# Altium integrated library National Semiconductor MiscPower.IntLib: 1552 symbols (part 28 of 43)
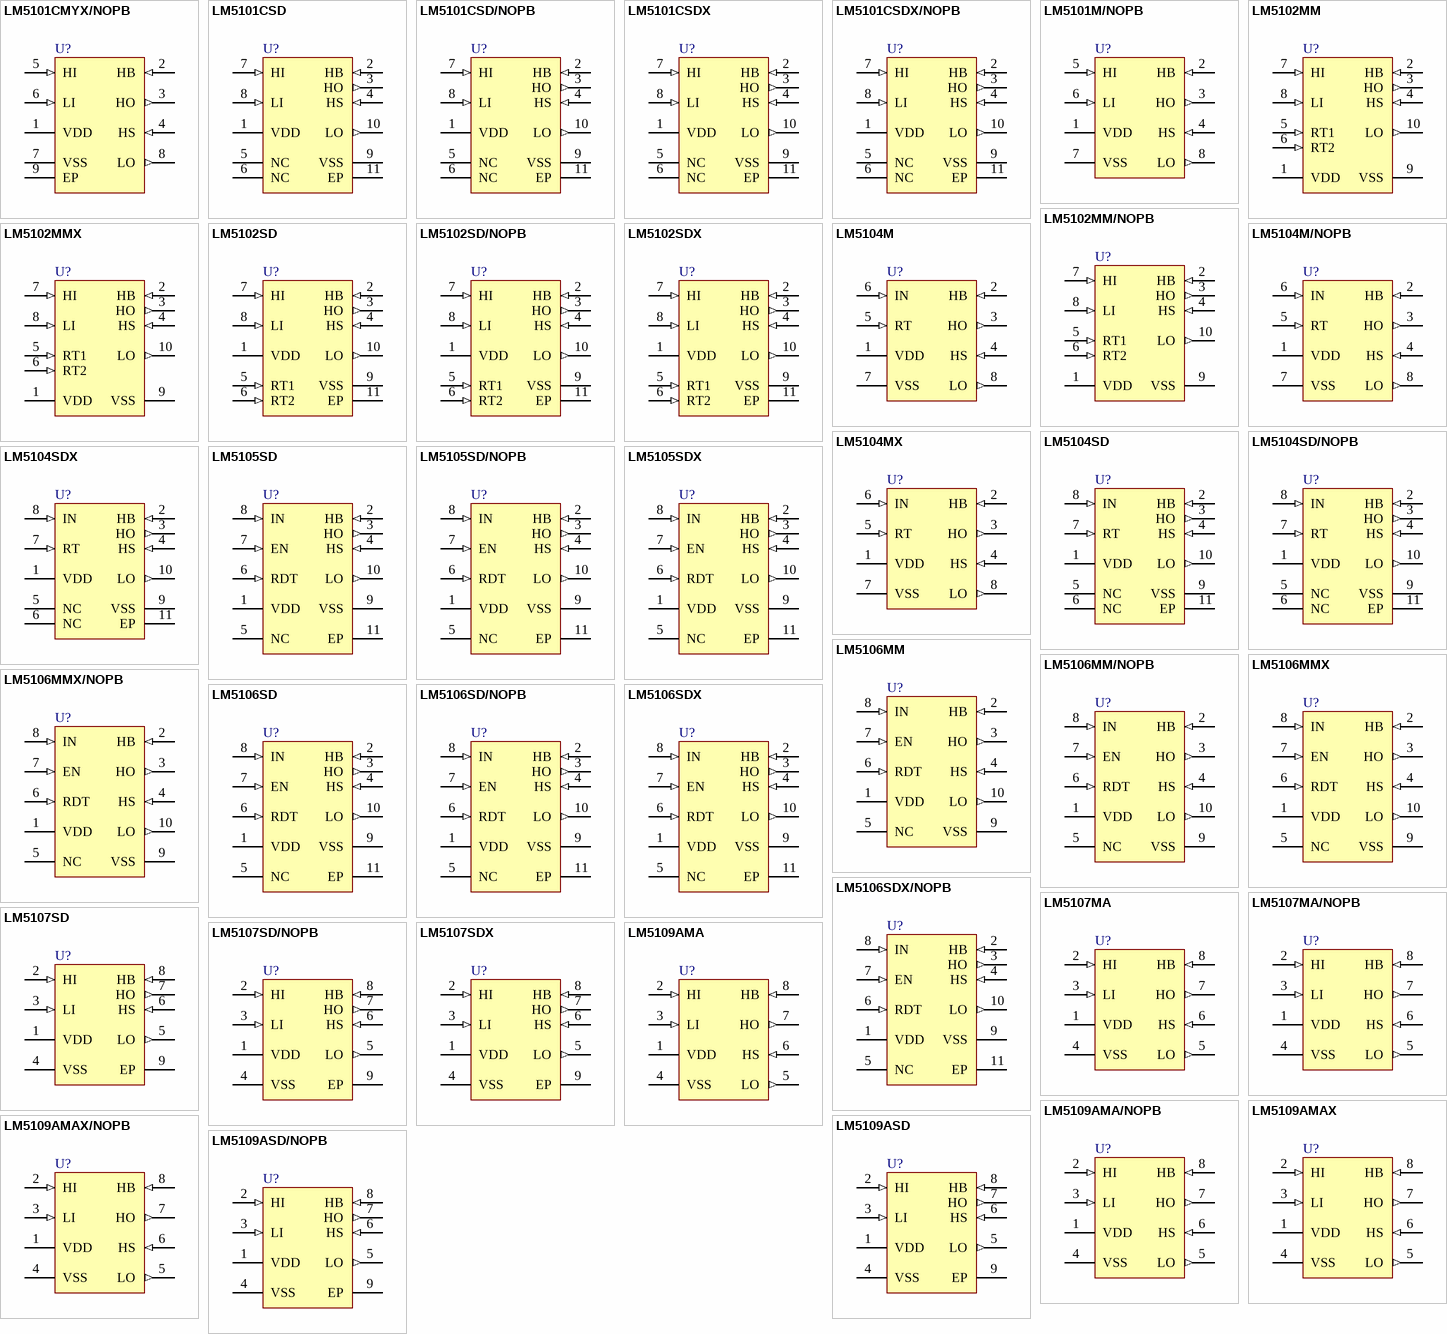
[diagram p84: symbols LM5101CMYX/NOPB to LM5109ASD/NOPB]

## LM5104SDX
designator U?
High Voltage Half-Bridge Gate Driver with Adaptive Delay, 10-pin LLP; PartNumber: LM5104SDX; Manufacturer: National Semiconductor; PackageTopMarking: NS*UZXYTT*5104SD; PowerWise: N; CompType: MiscPower; High-Reliability: Y; DatasheetVersion: Dec-2008; PackageVersion: revA, May-2003; PackageReference: SDC10A; PackageDescription: LLP, Plastic, Dual, 4 x 4 x 0.8mm Body, 10 Lead, 0.8mm Pitch, No Pullback; RoHS: N; PinCount: 10; ComponentLink1Description: Manufacturer URL; ComponentLink1URL: http://www.national.com/; ComponentLink2Description: LM5104 Datasheet; ComponentLink2URL: http://www.national.com/ds/LM/LM5104.pdf; ComponentLink3Description: LM5104 Web Page; ComponentLink3URL: http://www.national.com/pf/LM/LM5104.html; ComponentLink4Description: SDC10A Package Page; ComponentLink4URL: http://www.national.com/packaging/folders/sdc10a.html
footprint SDC10A (SON, 10-Leads, Body 4x4 mm, Pitch 0.8mm, NSC Recommended)
pins: 1 VDD (power), 2 HB (in), 3 HO (out), 4 HS (in), 5 NC, 6 NC, 7 RT (in), 8 IN (in), 9 VSS (power), 10 LO (out), 11 EP (power)

## LM5105SD
designator U?
100V Half Bridge Gate Driver with Programmable Dead-Time, 10-pin LLP; PartNumber: LM5105SD; Manufacturer: National Semiconductor; PackageTopMarking: NS*UZXYTT*L5105SD; PowerWise: N; CompType: MiscPower; High-Reliability: Y; DatasheetVersion: Feb-2006; PackageVersion: revA, May-2003; PackageReference: SDC10A; PackageDescription: LLP, Plastic, Dual, 4 x 4 x 0.8mm Body, 10 Lead, 0.8mm Pitch, No Pullback; RoHS: N; PinCount: 10; ComponentLink1Description: Manufacturer URL; ComponentLink1URL: http://www.national.com/; ComponentLink2Description: LM5105 Datasheet; ComponentLink2URL: http://www.national.com/ds/LM/LM5105.pdf; ComponentLink3Description: LM5105 Web Page; ComponentLink3URL: http://www.national.com/pf/LM/LM5105.html; ComponentLink4Description: SDC10A Package Page; ComponentLink4URL: http://www.national.com/packaging/folders/sdc10a.html
footprint SDC10A (SON, 10-Leads, Body 4x4 mm, Pitch 0.8mm, NSC Recommended)
pins: 1 VDD (power), 2 HB (in), 3 HO (out), 4 HS (in), 5 NC, 6 RDT (in), 7 EN (in), 8 IN (in), 9 VSS (power), 10 LO (out), 11 EP (power)

## LM5105SD/NOPB
designator U?
100V Half Bridge Gate Driver with Programmable Dead-Time, 10-pin LLP, Pb-Free; PartNumber: LM5105SD/NOPB; Manufacturer: National Semiconductor; PackageTopMarking: NS*UZXYTT*L5105SD; PowerWise: N; CompType: MiscPower; High-Reliability: Y; DatasheetVersion: Feb-2006; PackageVersion: revA, May-2003; PackageReference: SDC10A; PackageDescription: LLP, Plastic, Dual, 4 x 4 x 0.8mm Body, 10 Lead, 0.8mm Pitch, No Pullback; RoHS: Y; PinCount: 10; ComponentLink1Description: Manufacturer URL; ComponentLink1URL: http://www.national.com/; ComponentLink2Description: LM5105 Datasheet; ComponentLink2URL: http://www.national.com/ds/LM/LM5105.pdf; ComponentLink3Description: LM5105 Web Page; ComponentLink3URL: http://www.national.com/pf/LM/LM5105.html; ComponentLink4Description: SDC10A Package Page; ComponentLink4URL: http://www.national.com/packaging/folders/sdc10a.html
footprint SDC10A (SON, 10-Leads, Body 4x4 mm, Pitch 0.8mm, NSC Recommended)
pins: 1 VDD (power), 2 HB (in), 3 HO (out), 4 HS (in), 5 NC, 6 RDT (in), 7 EN (in), 8 IN (in), 9 VSS (power), 10 LO (out), 11 EP (power)

## LM5105SDX
designator U?
100V Half Bridge Gate Driver with Programmable Dead-Time, 10-pin LLP; PartNumber: LM5105SDX; Manufacturer: National Semiconductor; PackageTopMarking: NS*UZXYTT*L5105SD; PowerWise: N; CompType: MiscPower; High-Reliability: Y; DatasheetVersion: Feb-2006; PackageVersion: revA, May-2003; PackageReference: SDC10A; PackageDescription: LLP, Plastic, Dual, 4 x 4 x 0.8mm Body, 10 Lead, 0.8mm Pitch, No Pullback; RoHS: N; PinCount: 10; ComponentLink1Description: Manufacturer URL; ComponentLink1URL: http://www.national.com/; ComponentLink2Description: LM5105 Datasheet; ComponentLink2URL: http://www.national.com/ds/LM/LM5105.pdf; ComponentLink3Description: LM5105 Web Page; ComponentLink3URL: http://www.national.com/pf/LM/LM5105.html; ComponentLink4Description: SDC10A Package Page; ComponentLink4URL: http://www.national.com/packaging/folders/sdc10a.html
footprint SDC10A (SON, 10-Leads, Body 4x4 mm, Pitch 0.8mm, NSC Recommended)
pins: 1 VDD (power), 2 HB (in), 3 HO (out), 4 HS (in), 5 NC, 6 RDT (in), 7 EN (in), 8 IN (in), 9 VSS (power), 10 LO (out), 11 EP (power)

## LM5106MM
designator U?
100V Half Bridge Gate Driver with Programmable Dead-Time, 10-pin MSOP; PartNumber: LM5106MM; Manufacturer: National Semiconductor; PackageTopMarking: ZXTT*5106; PowerWise: N; CompType: MiscPower; High-Reliability: Y; DatasheetVersion: Oct-2009; PackageVersion: revB, Jul-2003; PackageReference: MUB10A; PackageDescription: Mini-SO, Molded, .118 x .118 x .034in Body, 10 Lead, .0197in Pitch; RoHS: N; PinCount: 10; Code_JEDEC: MO-187-BA; ComponentLink1Description: Manufacturer URL; ComponentLink1URL: http://www.national.com/; ComponentLink2Description: LM5106 Datasheet; ComponentLink2URL: http://www.national.com/ds/LM/LM5106.pdf; ComponentLink3Description: LM5106 Web Page; ComponentLink3URL: http://www.national.com/pf/LM/LM5106.html; ComponentLink4Description: MUB10A Package Page; ComponentLink4URL: http://www.national.com/packaging/folders/mub10a.html
footprint MUB10A_N (TSSOP, 10-Leads, Body 3x3mm, Pitch 0.5mm, IPC Medium Density)
footprint MUB10A_L (TSSOP, 10-Leads, Body 3x3mm, Pitch 0.5mm, IPC High Density)
footprint MUB10A_M (TSSOP, 10-Leads, Body 3x3mm, Pitch 0.5mm, IPC Low Density)
pins: 1 VDD (power), 2 HB (in), 3 HO (out), 4 HS (in), 5 NC, 6 RDT (in), 7 EN (in), 8 IN (in), 9 VSS (power), 10 LO (out)

## LM5106MM/NOPB
designator U?
100V Half-Bridge Gate Driver with Programmable Dead-Time, 10-pin MSOP, Pb-Free; PartNumber: LM5106MM/NOPB; Manufacturer: National Semiconductor; PackageTopMarking: ZXTT*5106; PowerWise: N; CompType: MiscPower; High-Reliability: Y; DatasheetVersion: Oct-2009; PackageVersion: revB, Jul-2003; PackageReference: MUB10A; PackageDescription: Mini-SO, Molded, .118 x .118 x .034in Body, 10 Lead, .0197in Pitch; RoHS: Y; PinCount: 10; Code_JEDEC: MO-187-BA; ComponentLink1Description: Manufacturer URL; ComponentLink1URL: http://www.national.com/; ComponentLink2Description: LM5106 Datasheet; ComponentLink2URL: http://www.national.com/ds/LM/LM5106.pdf; ComponentLink3Description: LM5106 Web Page; ComponentLink3URL: http://www.national.com/pf/LM/LM5106.html; ComponentLink4Description: MUB10A Package Page; ComponentLink4URL: http://www.national.com/packaging/folders/mub10a.html
footprint MUB10A_N (TSSOP, 10-Leads, Body 3x3mm, Pitch 0.5mm, IPC Medium Density)
footprint MUB10A_L (TSSOP, 10-Leads, Body 3x3mm, Pitch 0.5mm, IPC High Density)
footprint MUB10A_M (TSSOP, 10-Leads, Body 3x3mm, Pitch 0.5mm, IPC Low Density)
pins: 1 VDD (power), 2 HB (in), 3 HO (out), 4 HS (in), 5 NC, 6 RDT (in), 7 EN (in), 8 IN (in), 9 VSS (power), 10 LO (out)

## LM5106MMX
designator U?
100V Half Bridge Gate Driver with Programmable Dead-Time, 10-pin MSOP; PartNumber: LM5106MMX; Manufacturer: National Semiconductor; PackageTopMarking: ZXTT*5106; PowerWise: N; CompType: MiscPower; High-Reliability: Y; DatasheetVersion: Oct-2009; PackageVersion: revB, Jul-2003; PackageReference: MUB10A; PackageDescription: Mini-SO, Molded, .118 x .118 x .034in Body, 10 Lead, .0197in Pitch; RoHS: N; PinCount: 10; Code_JEDEC: MO-187-BA; ComponentLink1Description: Manufacturer URL; ComponentLink1URL: http://www.national.com/; ComponentLink2Description: LM5106 Datasheet; ComponentLink2URL: http://www.national.com/ds/LM/LM5106.pdf; ComponentLink3Description: LM5106 Web Page; ComponentLink3URL: http://www.national.com/pf/LM/LM5106.html; ComponentLink4Description: MUB10A Package Page; ComponentLink4URL: http://www.national.com/packaging/folders/mub10a.html
footprint MUB10A_N (TSSOP, 10-Leads, Body 3x3mm, Pitch 0.5mm, IPC Medium Density)
footprint MUB10A_L (TSSOP, 10-Leads, Body 3x3mm, Pitch 0.5mm, IPC High Density)
footprint MUB10A_M (TSSOP, 10-Leads, Body 3x3mm, Pitch 0.5mm, IPC Low Density)
pins: 1 VDD (power), 2 HB (in), 3 HO (out), 4 HS (in), 5 NC, 6 RDT (in), 7 EN (in), 8 IN (in), 9 VSS (power), 10 LO (out)

## LM5106MMX/NOPB
designator U?
100V Half Bridge Gate Driver with Programmable Dead-Time, 10-pin MSOP, Pb-Free; PartNumber: LM5106MMX/NOPB; Manufacturer: National Semiconductor; PackageTopMarking: ZXTT*5106; PowerWise: N; CompType: MiscPower; High-Reliability: Y; DatasheetVersion: Oct-2009; PackageVersion: revB, Jul-2003; PackageReference: MUB10A; PackageDescription: Mini-SO, Molded, .118 x .118 x .034in Body, 10 Lead, .0197in Pitch; RoHS: Y; PinCount: 10; Code_JEDEC: MO-187-BA; ComponentLink1Description: Manufacturer URL; ComponentLink1URL: http://www.national.com/; ComponentLink2Description: LM5106 Datasheet; ComponentLink2URL: http://www.national.com/ds/LM/LM5106.pdf; ComponentLink3Description: LM5106 Web Page; ComponentLink3URL: http://www.national.com/pf/LM/LM5106.html; ComponentLink4Description: MUB10A Package Page; ComponentLink4URL: http://www.national.com/packaging/folders/mub10a.html
footprint MUB10A_N (TSSOP, 10-Leads, Body 3x3mm, Pitch 0.5mm, IPC Medium Density)
footprint MUB10A_L (TSSOP, 10-Leads, Body 3x3mm, Pitch 0.5mm, IPC High Density)
footprint MUB10A_M (TSSOP, 10-Leads, Body 3x3mm, Pitch 0.5mm, IPC Low Density)
pins: 1 VDD (power), 2 HB (in), 3 HO (out), 4 HS (in), 5 NC, 6 RDT (in), 7 EN (in), 8 IN (in), 9 VSS (power), 10 LO (out)

## LM5106SD
designator U?
100V Half Bridge Gate Driver with Programmable Dead-Time, 10-pin LLP; PartNumber: LM5106SD; Manufacturer: National Semiconductor; PackageTopMarking: NS*UZXYTT*L5106SD; PowerWise: N; CompType: MiscPower; High-Reliability: Y; DatasheetVersion: Oct-2009; PackageVersion: revA, May-2003; PackageReference: SDC10A; PackageDescription: LLP, Plastic, Dual, 4 x 4 x 0.8mm Body, 10 Lead, 0.8mm Pitch, No Pullback; RoHS: N; PinCount: 10; ComponentLink1Description: Manufacturer URL; ComponentLink1URL: http://www.national.com/; ComponentLink2Description: LM5106 Datasheet; ComponentLink2URL: http://www.national.com/ds/LM/LM5106.pdf; ComponentLink3Description: LM5106 Web Page; ComponentLink3URL: http://www.national.com/pf/LM/LM5106.html; ComponentLink4Description: SDC10A Package Page; ComponentLink4URL: http://www.national.com/packaging/folders/sdc10a.html
footprint SDC10A (SON, 10-Leads, Body 4x4 mm, Pitch 0.8mm, NSC Recommended)
pins: 1 VDD (power), 2 HB (in), 3 HO (out), 4 HS (in), 5 NC, 6 RDT (in), 7 EN (in), 8 IN (in), 9 VSS (power), 10 LO (out), 11 EP (power)

## LM5106SD/NOPB
designator U?
100V Half-Bridge Gate Driver with Programmable Dead-Time, 10-pin LLP, Pb-Free; PartNumber: LM5106SD/NOPB; Manufacturer: National Semiconductor; PackageTopMarking: NS*UZXYTT*L5106SD; PowerWise: N; CompType: MiscPower; High-Reliability: Y; DatasheetVersion: Oct-2009; PackageVersion: revA, May-2003; PackageReference: SDC10A; PackageDescription: LLP, Plastic, Dual, 4 x 4 x 0.8mm Body, 10 Lead, 0.8mm Pitch, No Pullback; RoHS: Y; PinCount: 10; ComponentLink1Description: Manufacturer URL; ComponentLink1URL: http://www.national.com/; ComponentLink2Description: LM5106 Datasheet; ComponentLink2URL: http://www.national.com/ds/LM/LM5106.pdf; ComponentLink3Description: LM5106 Web Page; ComponentLink3URL: http://www.national.com/pf/LM/LM5106.html; ComponentLink4Description: SDC10A Package Page; ComponentLink4URL: http://www.national.com/packaging/folders/sdc10a.html
footprint SDC10A (SON, 10-Leads, Body 4x4 mm, Pitch 0.8mm, NSC Recommended)
pins: 1 VDD (power), 2 HB (in), 3 HO (out), 4 HS (in), 5 NC, 6 RDT (in), 7 EN (in), 8 IN (in), 9 VSS (power), 10 LO (out), 11 EP (power)

## LM5106SDX
designator U?
100V Half Bridge Gate Driver with Programmable Dead-Time, 10-pin LLP; PartNumber: LM5106SDX; Manufacturer: National Semiconductor; PackageTopMarking: NS*UZXYTT*L5106SD; PowerWise: N; CompType: MiscPower; High-Reliability: Y; DatasheetVersion: Oct-2009; PackageVersion: revA, May-2003; PackageReference: SDC10A; PackageDescription: LLP, Plastic, Dual, 4 x 4 x 0.8mm Body, 10 Lead, 0.8mm Pitch, No Pullback; RoHS: N; PinCount: 10; ComponentLink1Description: Manufacturer URL; ComponentLink1URL: http://www.national.com/; ComponentLink2Description: LM5106 Datasheet; ComponentLink2URL: http://www.national.com/ds/LM/LM5106.pdf; ComponentLink3Description: LM5106 Web Page; ComponentLink3URL: http://www.national.com/pf/LM/LM5106.html; ComponentLink4Description: SDC10A Package Page; ComponentLink4URL: http://www.national.com/packaging/folders/sdc10a.html
footprint SDC10A (SON, 10-Leads, Body 4x4 mm, Pitch 0.8mm, NSC Recommended)
pins: 1 VDD (power), 2 HB (in), 3 HO (out), 4 HS (in), 5 NC, 6 RDT (in), 7 EN (in), 8 IN (in), 9 VSS (power), 10 LO (out), 11 EP (power)

## LM5106SDX/NOPB
designator U?
100V Half Bridge Gate Driver with Programmable Dead-Time, 10-pin LLP, Pb-Free; PartNumber: LM5106SDX/NOPB; Manufacturer: National Semiconductor; PackageTopMarking: NS*UZXYTT*L5106SD; PowerWise: N; CompType: MiscPower; High-Reliability: Y; DatasheetVersion: Oct-2009; PackageVersion: revA, May-2003; PackageReference: SDC10A; PackageDescription: LLP, Plastic, Dual, 4 x 4 x 0.8mm Body, 10 Lead, 0.8mm Pitch, No Pullback; RoHS: Y; PinCount: 10; ComponentLink1Description: Manufacturer URL; ComponentLink1URL: http://www.national.com/; ComponentLink2Description: LM5106 Datasheet; ComponentLink2URL: http://www.national.com/ds/LM/LM5106.pdf; ComponentLink3Description: LM5106 Web Page; ComponentLink3URL: http://www.national.com/pf/LM/LM5106.html; ComponentLink4Description: SDC10A Package Page; ComponentLink4URL: http://www.national.com/packaging/folders/sdc10a.html
footprint SDC10A (SON, 10-Leads, Body 4x4 mm, Pitch 0.8mm, NSC Recommended)
pins: 1 VDD (power), 2 HB (in), 3 HO (out), 4 HS (in), 5 NC, 6 RDT (in), 7 EN (in), 8 IN (in), 9 VSS (power), 10 LO (out), 11 EP (power)

## LM5107MA
designator U?
100V / 1.4A Peak Half Bridge Gate Driver, 8-pin Narrow SOIC; PartNumber: LM5107MA; Manufacturer: National Semiconductor; PackageTopMarking: NSZXTT*L5107*MA; PowerWise: N; CompType: MiscPower; High-Reliability: Y; DatasheetVersion: Mar-2005; PackageVersion: revM, May-2009; PackageReference: M08A; PackageDescription: SOIC Narrow, 4.9 x 3.9 x 1.45mm, 8 Lead, 1.27mm Pitch; RoHS: N; PinCount: 8; Code_JEDEC: MS-012-AA; Code_IPC: SOIC127P600-8; ComponentLink1Description: Manufacturer URL; ComponentLink1URL: http://www.national.com/; ComponentLink2Description: LM5107 Datasheet; ComponentLink2URL: http://www.national.com/ds/LM/LM5107.pdf; ComponentLink3Description: LM5107 Web Page; ComponentLink3URL: http://www.national.com/pf/LM/LM5107.html; ComponentLink4Description: M08A Package Page; ComponentLink4URL: http://www.national.com/packaging/folders/m08a.html
footprint M08A_N (SOIC, 8-Leads, Body 4.9x3.9mm, Pitch 1.27mm, IPC Medium Density)
footprint M08A_L (SOIC, 8-Leads, Body 4.9x3.9mm, Pitch 1.27mm, IPC High Density)
footprint M08A_M (SOIC, 8-Leads, Body 4.9x3.9mm, Pitch 1.27mm, IPC Low Density)
pins: 1 VDD (power), 2 HI (in), 3 LI (in), 4 VSS (power), 5 LO (out), 6 HS (in), 7 HO (out), 8 HB (in)

## LM5107MA/NOPB
designator U?
100V / 1.4A Peak Half-Bridge Gate Driver, 8-pin Narrow SOIC, Pb-Free; PartNumber: LM5107MA/NOPB; Manufacturer: National Semiconductor; PackageTopMarking: NSZXTT*L5107*MA; PowerWise: N; CompType: MiscPower; High-Reliability: Y; DatasheetVersion: Mar-2005; PackageVersion: revM, May-2009; PackageReference: M08A; PackageDescription: SOIC Narrow, 4.9 x 3.9 x 1.45mm, 8 Lead, 1.27mm Pitch; RoHS: Y; PinCount: 8; Code_JEDEC: MS-012-AA; Code_IPC: SOIC127P600-8; ComponentLink1Description: Manufacturer URL; ComponentLink1URL: http://www.national.com/; ComponentLink2Description: LM5107 Datasheet; ComponentLink2URL: http://www.national.com/ds/LM/LM5107.pdf; ComponentLink3Description: LM5107 Web Page; ComponentLink3URL: http://www.national.com/pf/LM/LM5107.html; ComponentLink4Description: M08A Package Page; ComponentLink4URL: http://www.national.com/packaging/folders/m08a.html
footprint M08A_N (SOIC, 8-Leads, Body 4.9x3.9mm, Pitch 1.27mm, IPC Medium Density)
footprint M08A_L (SOIC, 8-Leads, Body 4.9x3.9mm, Pitch 1.27mm, IPC High Density)
footprint M08A_M (SOIC, 8-Leads, Body 4.9x3.9mm, Pitch 1.27mm, IPC Low Density)
pins: 1 VDD (power), 2 HI (in), 3 LI (in), 4 VSS (power), 5 LO (out), 6 HS (in), 7 HO (out), 8 HB (in)

## LM5107SD
designator U?
100V / 1.4A Peak Half Bridge Gate Driver, 8-pin LLP; PartNumber: LM5107SD; Manufacturer: National Semiconductor; PackageTopMarking: NS*UZXYTT*L5107SD; PowerWise: N; CompType: MiscPower; High-Reliability: Y; DatasheetVersion: Mar-2005; PackageVersion: revA, Jun-2003; PackageReference: SDC08A; PackageDescription: LLP, Plastic, Dual, 4 x 4 x 0.8mm Body, 8 Lead, 0.8mm Pitch, No Pullback; RoHS: N; PinCount: 8; ComponentLink1Description: Manufacturer URL; ComponentLink1URL: http://www.national.com/; ComponentLink2Description: LM5107 Datasheet; ComponentLink2URL: http://www.national.com/ds/LM/LM5107.pdf; ComponentLink3Description: LM5107 Web Page; ComponentLink3URL: http://www.national.com/pf/LM/LM5107.html; ComponentLink4Description: SDC08A Package Page; ComponentLink4URL: http://www.national.com/packaging/folders/sdc08a.html
footprint SDC08A (SON, 8-Leads, Body 4x4mm, Pitch 0.8mm, NSC Recommended)
pins: 1 VDD (power), 2 HI (in), 3 LI (in), 4 VSS (power), 5 LO (out), 6 HS (in), 7 HO (out), 8 HB (in), 9 EP (power)

## LM5107SD/NOPB
designator U?
100V / 1.4A Peak Half-Bridge Gate Driver, 8-pin LLP, Pb-Free; PartNumber: LM5107SD/NOPB; Manufacturer: National Semiconductor; PackageTopMarking: NS*UZXYTT*L5107SD; PowerWise: N; CompType: MiscPower; High-Reliability: Y; DatasheetVersion: Mar-2005; PackageVersion: revA, Jun-2003; PackageReference: SDC08A; PackageDescription: LLP, Plastic, Dual, 4 x 4 x 0.8mm Body, 8 Lead, 0.8mm Pitch, No Pullback; RoHS: Y; PinCount: 8; ComponentLink1Description: Manufacturer URL; ComponentLink1URL: http://www.national.com/; ComponentLink2Description: LM5107 Datasheet; ComponentLink2URL: http://www.national.com/ds/LM/LM5107.pdf; ComponentLink3Description: LM5107 Web Page; ComponentLink3URL: http://www.national.com/pf/LM/LM5107.html; ComponentLink4Description: SDC08A Package Page; ComponentLink4URL: http://www.national.com/packaging/folders/sdc08a.html
footprint SDC08A (SON, 8-Leads, Body 4x4mm, Pitch 0.8mm, NSC Recommended)
pins: 1 VDD (power), 2 HI (in), 3 LI (in), 4 VSS (power), 5 LO (out), 6 HS (in), 7 HO (out), 8 HB (in), 9 EP (power)

## LM5107SDX
designator U?
100V / 1.4A Peak Half Bridge Gate Driver, 8-pin LLP; PartNumber: LM5107SDX; Manufacturer: National Semiconductor; PackageTopMarking: NS*UZXYTT*L5107SD; PowerWise: N; CompType: MiscPower; High-Reliability: Y; DatasheetVersion: Mar-2005; PackageVersion: revA, Jun-2003; PackageReference: SDC08A; PackageDescription: LLP, Plastic, Dual, 4 x 4 x 0.8mm Body, 8 Lead, 0.8mm Pitch, No Pullback; RoHS: N; PinCount: 8; ComponentLink1Description: Manufacturer URL; ComponentLink1URL: http://www.national.com/; ComponentLink2Description: LM5107 Datasheet; ComponentLink2URL: http://www.national.com/ds/LM/LM5107.pdf; ComponentLink3Description: LM5107 Web Page; ComponentLink3URL: http://www.national.com/pf/LM/LM5107.html; ComponentLink4Description: SDC08A Package Page; ComponentLink4URL: http://www.national.com/packaging/folders/sdc08a.html
footprint SDC08A (SON, 8-Leads, Body 4x4mm, Pitch 0.8mm, NSC Recommended)
pins: 1 VDD (power), 2 HI (in), 3 LI (in), 4 VSS (power), 5 LO (out), 6 HS (in), 7 HO (out), 8 HB (in), 9 EP (power)

## LM5109AMA
designator U?
High Voltage 1A Peak Half Bridge Gate Driver, 8-pin Narrow SOIC; PartNumber: LM5109AMA; Manufacturer: National Semiconductor; PackageTopMarking: NSZXTT*L5109*AMA; PowerWise: N; CompType: MiscPower; High-Reliability: Y; DatasheetVersion: Apr-2006; PackageVersion: revM, May-2009; PackageReference: M08A; PackageDescription: SOIC Narrow, 4.9 x 3.9 x 1.45mm, 8 Lead, 1.27mm Pitch; RoHS: N; PinCount: 8; Code_JEDEC: MS-012-AA; Code_IPC: SOIC127P600-8; ComponentLink1Description: Manufacturer URL; ComponentLink1URL: http://www.national.com/; ComponentLink2Description: LM5109A Datasheet; ComponentLink2URL: http://www.national.com/ds/LM/LM5109A.pdf; ComponentLink3Description: LM5109A Web Page; ComponentLink3URL: http://www.national.com/pf/LM/LM5109A.html; ComponentLink4Description: M08A Package Page; ComponentLink4URL: http://www.national.com/packaging/folders/m08a.html
footprint M08A_N (SOIC, 8-Leads, Body 4.9x3.9mm, Pitch 1.27mm, IPC Medium Density)
footprint M08A_L (SOIC, 8-Leads, Body 4.9x3.9mm, Pitch 1.27mm, IPC High Density)
footprint M08A_M (SOIC, 8-Leads, Body 4.9x3.9mm, Pitch 1.27mm, IPC Low Density)
pins: 1 VDD (power), 2 HI (in), 3 LI (in), 4 VSS (power), 5 LO (out), 6 HS (in), 7 HO (out), 8 HB (in)

## LM5109AMA/NOPB
designator U?
High Voltage 1A Peak Half Bridge Gate Driver, 8-pin Narrow SOIC, Pb-Free; PartNumber: LM5109AMA/NOPB; Manufacturer: National Semiconductor; PackageTopMarking: NSZXTT*L5109*AMA; PowerWise: N; CompType: MiscPower; High-Reliability: Y; DatasheetVersion: Apr-2006; PackageVersion: revM, May-2009; PackageReference: M08A; PackageDescription: SOIC Narrow, 4.9 x 3.9 x 1.45mm, 8 Lead, 1.27mm Pitch; RoHS: Y; PinCount: 8; Code_JEDEC: MS-012-AA; Code_IPC: SOIC127P600-8; ComponentLink1Description: Manufacturer URL; ComponentLink1URL: http://www.national.com/; ComponentLink2Description: LM5109A Datasheet; ComponentLink2URL: http://www.national.com/ds/LM/LM5109A.pdf; ComponentLink3Description: LM5109A Web Page; ComponentLink3URL: http://www.national.com/pf/LM/LM5109A.html; ComponentLink4Description: M08A Package Page; ComponentLink4URL: http://www.national.com/packaging/folders/m08a.html
footprint M08A_N (SOIC, 8-Leads, Body 4.9x3.9mm, Pitch 1.27mm, IPC Medium Density)
footprint M08A_L (SOIC, 8-Leads, Body 4.9x3.9mm, Pitch 1.27mm, IPC High Density)
footprint M08A_M (SOIC, 8-Leads, Body 4.9x3.9mm, Pitch 1.27mm, IPC Low Density)
pins: 1 VDD (power), 2 HI (in), 3 LI (in), 4 VSS (power), 5 LO (out), 6 HS (in), 7 HO (out), 8 HB (in)

## LM5109AMAX
designator U?
High Voltage 1A Peak Half Bridge Gate Driver, 8-pin Narrow SOIC; PartNumber: LM5109AMAX; Manufacturer: National Semiconductor; PackageTopMarking: NSZXTT*L5109*AMA; PowerWise: N; CompType: MiscPower; High-Reliability: Y; DatasheetVersion: Apr-2006; PackageVersion: revM, May-2009; PackageReference: M08A; PackageDescription: SOIC Narrow, 4.9 x 3.9 x 1.45mm, 8 Lead, 1.27mm Pitch; RoHS: N; PinCount: 8; Code_JEDEC: MS-012-AA; Code_IPC: SOIC127P600-8; ComponentLink1Description: Manufacturer URL; ComponentLink1URL: http://www.national.com/; ComponentLink2Description: LM5109A Datasheet; ComponentLink2URL: http://www.national.com/ds/LM/LM5109A.pdf; ComponentLink3Description: LM5109A Web Page; ComponentLink3URL: http://www.national.com/pf/LM/LM5109A.html; ComponentLink4Description: M08A Package Page; ComponentLink4URL: http://www.national.com/packaging/folders/m08a.html
footprint M08A_N (SOIC, 8-Leads, Body 4.9x3.9mm, Pitch 1.27mm, IPC Medium Density)
footprint M08A_L (SOIC, 8-Leads, Body 4.9x3.9mm, Pitch 1.27mm, IPC High Density)
footprint M08A_M (SOIC, 8-Leads, Body 4.9x3.9mm, Pitch 1.27mm, IPC Low Density)
pins: 1 VDD (power), 2 HI (in), 3 LI (in), 4 VSS (power), 5 LO (out), 6 HS (in), 7 HO (out), 8 HB (in)

## LM5109AMAX/NOPB
designator U?
High Voltage 1A Peak Half Bridge Gate Driver, 8-pin Narrow SOIC, Pb-Free; PartNumber: LM5109AMAX/NOPB; Manufacturer: National Semiconductor; PackageTopMarking: NSZXTT*L5109*AMA; PowerWise: N; CompType: MiscPower; High-Reliability: Y; DatasheetVersion: Apr-2006; PackageVersion: revM, May-2009; PackageReference: M08A; PackageDescription: SOIC Narrow, 4.9 x 3.9 x 1.45mm, 8 Lead, 1.27mm Pitch; RoHS: Y; PinCount: 8; Code_JEDEC: MS-012-AA; Code_IPC: SOIC127P600-8; ComponentLink1Description: Manufacturer URL; ComponentLink1URL: http://www.national.com/; ComponentLink2Description: LM5109A Datasheet; ComponentLink2URL: http://www.national.com/ds/LM/LM5109A.pdf; ComponentLink3Description: LM5109A Web Page; ComponentLink3URL: http://www.national.com/pf/LM/LM5109A.html; ComponentLink4Description: M08A Package Page; ComponentLink4URL: http://www.national.com/packaging/folders/m08a.html
footprint M08A_N (SOIC, 8-Leads, Body 4.9x3.9mm, Pitch 1.27mm, IPC Medium Density)
footprint M08A_L (SOIC, 8-Leads, Body 4.9x3.9mm, Pitch 1.27mm, IPC High Density)
footprint M08A_M (SOIC, 8-Leads, Body 4.9x3.9mm, Pitch 1.27mm, IPC Low Density)
pins: 1 VDD (power), 2 HI (in), 3 LI (in), 4 VSS (power), 5 LO (out), 6 HS (in), 7 HO (out), 8 HB (in)

## LM5109ASD
designator U?
High Voltage 1A Peak Half Bridge Gate Driver, 8-pin LLP; PartNumber: LM5109ASD; Manufacturer: National Semiconductor; PackageTopMarking: NS*UZXYTT*5109ASD; PowerWise: N; CompType: MiscPower; High-Reliability: Y; DatasheetVersion: Apr-2006; PackageVersion: revA, Jun-2003; PackageReference: SDC08A; PackageDescription: LLP, Plastic, Dual, 4 x 4 x 0.8mm Body, 8 Lead, 0.8mm Pitch, No Pullback; RoHS: N; PinCount: 8; ComponentLink1Description: Manufacturer URL; ComponentLink1URL: http://www.national.com/; ComponentLink2Description: LM5109A Datasheet; ComponentLink2URL: http://www.national.com/ds/LM/LM5109A.pdf; ComponentLink3Description: LM5109A Web Page; ComponentLink3URL: http://www.national.com/pf/LM/LM5109A.html; ComponentLink4Description: SDC08A Package Page; ComponentLink4URL: http://www.national.com/packaging/folders/sdc08a.html
footprint SDC08A (SON, 8-Leads, Body 4x4mm, Pitch 0.8mm, NSC Recommended)
pins: 1 VDD (power), 2 HI (in), 3 LI (in), 4 VSS (power), 5 LO (out), 6 HS (in), 7 HO (out), 8 HB (in), 9 EP (power)

## LM5109ASD/NOPB
designator U?
High Voltage 1A Peak Half Bridge Gate Driver, 8-pin LLP, Pb-Free; PartNumber: LM5109ASD/NOPB; Manufacturer: National Semiconductor; PackageTopMarking: NS*UZXYTT*5109ASD; PowerWise: N; CompType: MiscPower; High-Reliability: Y; DatasheetVersion: Apr-2006; PackageVersion: revA, Jun-2003; PackageReference: SDC08A; PackageDescription: LLP, Plastic, Dual, 4 x 4 x 0.8mm Body, 8 Lead, 0.8mm Pitch, No Pullback; RoHS: Y; PinCount: 8; ComponentLink1Description: Manufacturer URL; ComponentLink1URL: http://www.national.com/; ComponentLink2Description: LM5109A Datasheet; ComponentLink2URL: http://www.national.com/ds/LM/LM5109A.pdf; ComponentLink3Description: LM5109A Web Page; ComponentLink3URL: http://www.national.com/pf/LM/LM5109A.html; ComponentLink4Description: SDC08A Package Page; ComponentLink4URL: http://www.national.com/packaging/folders/sdc08a.html
footprint SDC08A (SON, 8-Leads, Body 4x4mm, Pitch 0.8mm, NSC Recommended)
pins: 1 VDD (power), 2 HI (in), 3 LI (in), 4 VSS (power), 5 LO (out), 6 HS (in), 7 HO (out), 8 HB (in), 9 EP (power)

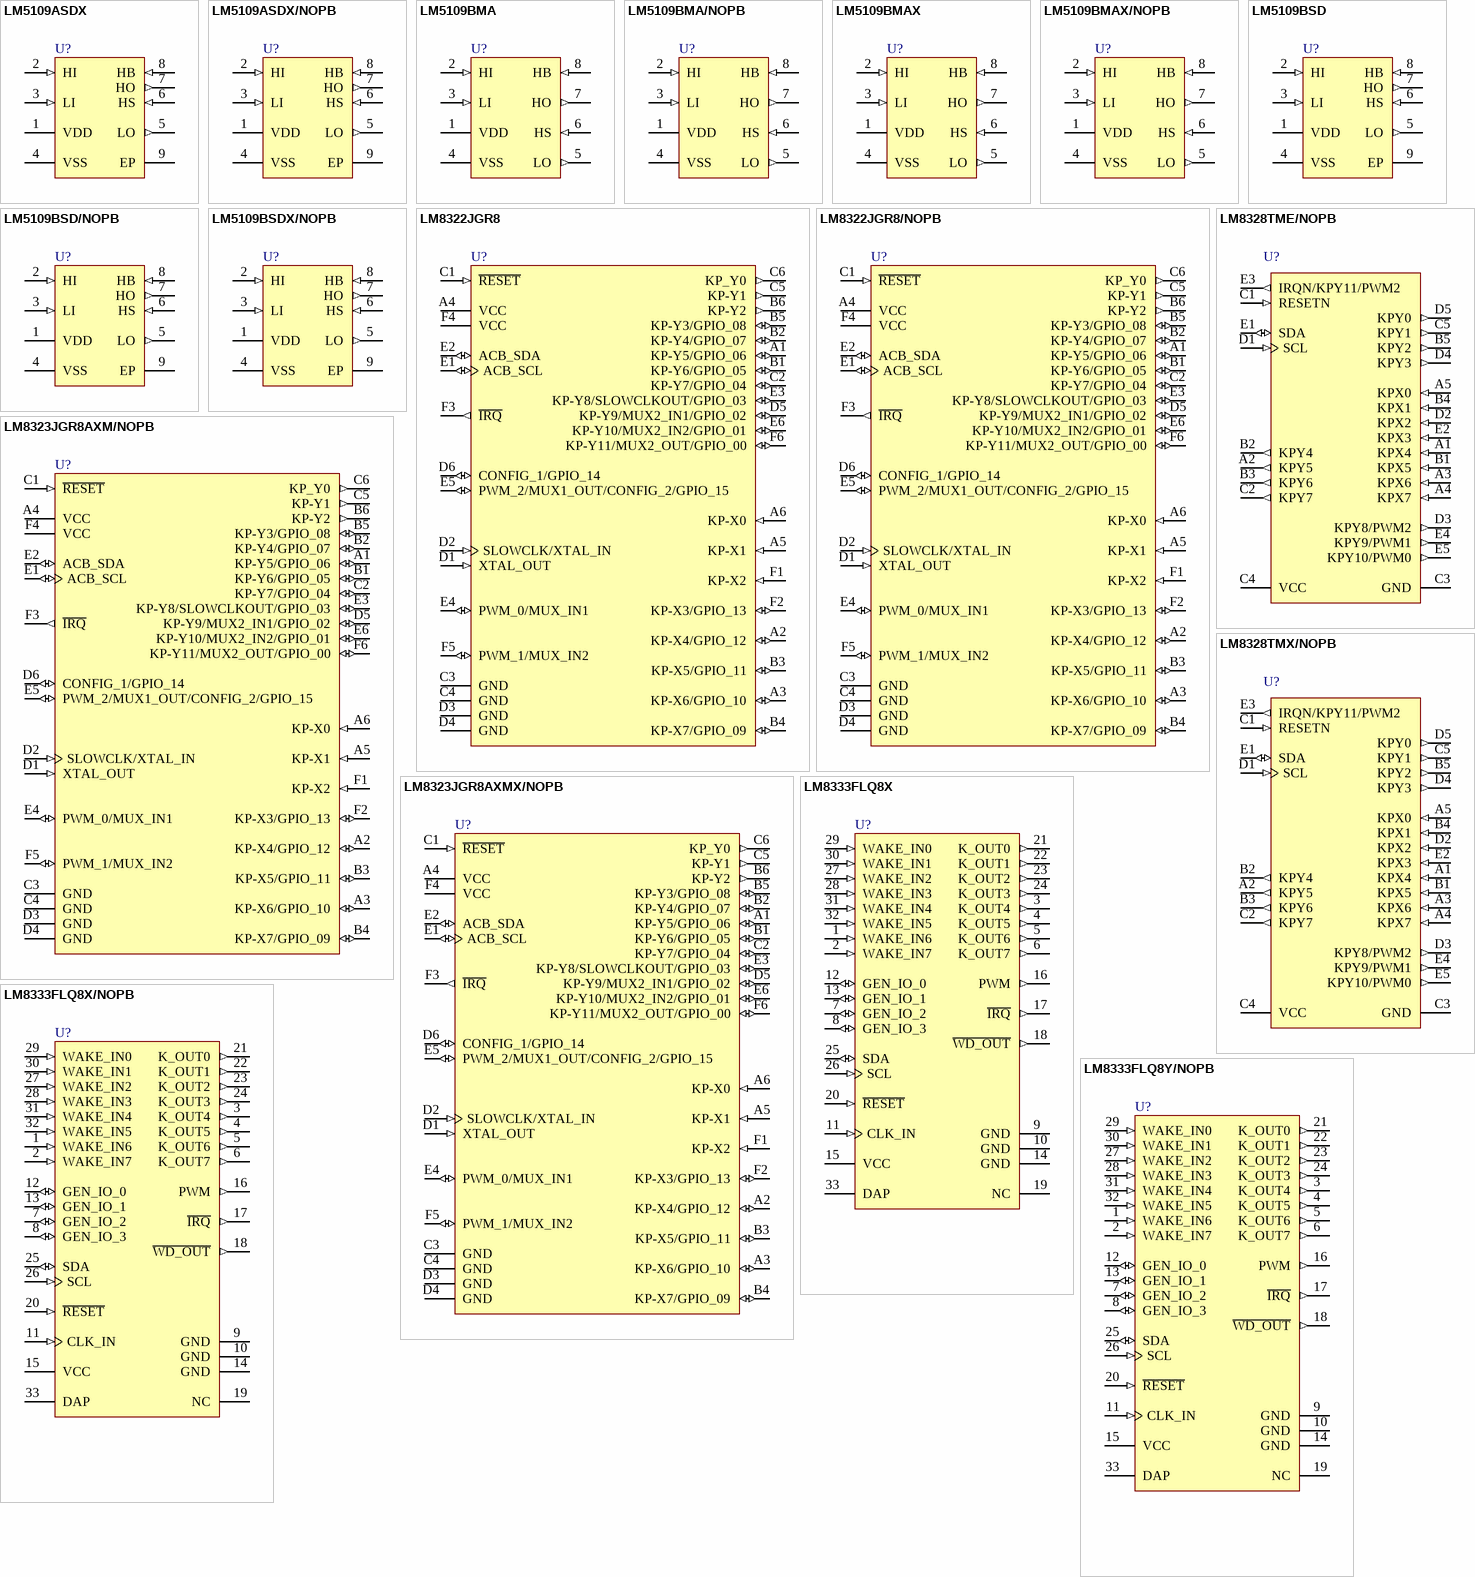
[diagram p31: symbols LM5109ASDX to LM8333FLQ8Y/NOPB]

## LM5109ASDX
designator U?
High Voltage 1A Peak Half Bridge Gate Driver, 8-pin LLP; PartNumber: LM5109ASDX; Manufacturer: National Semiconductor; PackageTopMarking: NS*UZXYTT*5109ASD; PowerWise: N; CompType: MiscPower; High-Reliability: Y; DatasheetVersion: Apr-2006; PackageVersion: revA, Jun-2003; PackageReference: SDC08A; PackageDescription: LLP, Plastic, Dual, 4 x 4 x 0.8mm Body, 8 Lead, 0.8mm Pitch, No Pullback; RoHS: N; PinCount: 8; ComponentLink1Description: Manufacturer URL; ComponentLink1URL: http://www.national.com/; ComponentLink2Description: LM5109A Datasheet; ComponentLink2URL: http://www.national.com/ds/LM/LM5109A.pdf; ComponentLink3Description: LM5109A Web Page; ComponentLink3URL: http://www.national.com/pf/LM/LM5109A.html; ComponentLink4Description: SDC08A Package Page; ComponentLink4URL: http://www.national.com/packaging/folders/sdc08a.html
footprint SDC08A (SON, 8-Leads, Body 4x4mm, Pitch 0.8mm, NSC Recommended)
pins: 1 VDD (power), 2 HI (in), 3 LI (in), 4 VSS (power), 5 LO (out), 6 HS (in), 7 HO (out), 8 HB (in), 9 EP (power)

## LM5109ASDX/NOPB
designator U?
High Voltage 1A Peak Half Bridge Gate Driver, 8-pin LLP, Pb-Free; PartNumber: LM5109ASDX/NOPB; Manufacturer: National Semiconductor; PackageTopMarking: NS*UZXYTT*5109ASD; PowerWise: N; CompType: MiscPower; High-Reliability: Y; DatasheetVersion: Apr-2006; PackageVersion: revA, Jun-2003; PackageReference: SDC08A; PackageDescription: LLP, Plastic, Dual, 4 x 4 x 0.8mm Body, 8 Lead, 0.8mm Pitch, No Pullback; RoHS: Y; PinCount: 8; ComponentLink1Description: Manufacturer URL; ComponentLink1URL: http://www.national.com/; ComponentLink2Description: LM5109A Datasheet; ComponentLink2URL: http://www.national.com/ds/LM/LM5109A.pdf; ComponentLink3Description: LM5109A Web Page; ComponentLink3URL: http://www.national.com/pf/LM/LM5109A.html; ComponentLink4Description: SDC08A Package Page; ComponentLink4URL: http://www.national.com/packaging/folders/sdc08a.html
footprint SDC08A (SON, 8-Leads, Body 4x4mm, Pitch 0.8mm, NSC Recommended)
pins: 1 VDD (power), 2 HI (in), 3 LI (in), 4 VSS (power), 5 LO (out), 6 HS (in), 7 HO (out), 8 HB (in), 9 EP (power)

## LM5109BMA
designator U?
High Voltage 1A Peak Half Bridge Gate Driver, 8-pin Narrow SOIC; PartNumber: LM5109BMA; Manufacturer: National Semiconductor; PackageTopMarking: NSZXTT*L5109*BMA; PowerWise: N; CompType: MiscPower; High-Reliability: Y; DatasheetVersion: Feb-2007; PackageVersion: revM, May-2009; PackageReference: M08A; PackageDescription: SOIC Narrow, 4.9 x 3.9 x 1.45mm, 8 Lead, 1.27mm Pitch; RoHS: N; PinCount: 8; Code_JEDEC: MS-012-AA; Code_IPC: SOIC127P600-8; ComponentLink1Description: Manufacturer URL; ComponentLink1URL: http://www.national.com/; ComponentLink2Description: LM5109B Datasheet; ComponentLink2URL: http://www.national.com/ds/LM/LM5109B.pdf; ComponentLink3Description: LM5109B Web Page; ComponentLink3URL: http://www.national.com/pf/LM/LM5109B.html; ComponentLink4Description: M08A Package Page; ComponentLink4URL: http://www.national.com/packaging/folders/m08a.html
footprint M08A_N (SOIC, 8-Leads, Body 4.9x3.9mm, Pitch 1.27mm, IPC Medium Density)
footprint M08A_L (SOIC, 8-Leads, Body 4.9x3.9mm, Pitch 1.27mm, IPC High Density)
footprint M08A_M (SOIC, 8-Leads, Body 4.9x3.9mm, Pitch 1.27mm, IPC Low Density)
pins: 1 VDD (power), 2 HI (in), 3 LI (in), 4 VSS (power), 5 LO (out), 6 HS (in), 7 HO (out), 8 HB (in)

## LM5109BMA/NOPB
designator U?
High Voltage 1A Peak Half Bridge Gate Driver, 8-pin Narrow SOIC, Pb-Free; PartNumber: LM5109BMA/NOPB; Manufacturer: National Semiconductor; PackageTopMarking: NSZXTT*L5109*BMA; PowerWise: N; CompType: MiscPower; High-Reliability: Y; DatasheetVersion: Feb-2007; PackageVersion: revM, May-2009; PackageReference: M08A; PackageDescription: SOIC Narrow, 4.9 x 3.9 x 1.45mm, 8 Lead, 1.27mm Pitch; RoHS: Y; PinCount: 8; Code_JEDEC: MS-012-AA; Code_IPC: SOIC127P600-8; ComponentLink1Description: Manufacturer URL; ComponentLink1URL: http://www.national.com/; ComponentLink2Description: LM5109B Datasheet; ComponentLink2URL: http://www.national.com/ds/LM/LM5109B.pdf; ComponentLink3Description: LM5109B Web Page; ComponentLink3URL: http://www.national.com/pf/LM/LM5109B.html; ComponentLink4Description: M08A Package Page; ComponentLink4URL: http://www.national.com/packaging/folders/m08a.html
footprint M08A_N (SOIC, 8-Leads, Body 4.9x3.9mm, Pitch 1.27mm, IPC Medium Density)
footprint M08A_L (SOIC, 8-Leads, Body 4.9x3.9mm, Pitch 1.27mm, IPC High Density)
footprint M08A_M (SOIC, 8-Leads, Body 4.9x3.9mm, Pitch 1.27mm, IPC Low Density)
pins: 1 VDD (power), 2 HI (in), 3 LI (in), 4 VSS (power), 5 LO (out), 6 HS (in), 7 HO (out), 8 HB (in)

## LM5109BMAX
designator U?
High Voltage 1A Peak Half Bridge Gate Driver, 8-pin Narrow SOIC; PartNumber: LM5109BMAX; Manufacturer: National Semiconductor; PackageTopMarking: NSZXTT*L5109*BMA; PowerWise: N; CompType: MiscPower; High-Reliability: Y; DatasheetVersion: Feb-2007; PackageVersion: revM, May-2009; PackageReference: M08A; PackageDescription: SOIC Narrow, 4.9 x 3.9 x 1.45mm, 8 Lead, 1.27mm Pitch; RoHS: N; PinCount: 8; Code_JEDEC: MS-012-AA; Code_IPC: SOIC127P600-8; ComponentLink1Description: Manufacturer URL; ComponentLink1URL: http://www.national.com/; ComponentLink2Description: LM5109B Datasheet; ComponentLink2URL: http://www.national.com/ds/LM/LM5109B.pdf; ComponentLink3Description: LM5109B Web Page; ComponentLink3URL: http://www.national.com/pf/LM/LM5109B.html; ComponentLink4Description: M08A Package Page; ComponentLink4URL: http://www.national.com/packaging/folders/m08a.html
footprint M08A_N (SOIC, 8-Leads, Body 4.9x3.9mm, Pitch 1.27mm, IPC Medium Density)
footprint M08A_L (SOIC, 8-Leads, Body 4.9x3.9mm, Pitch 1.27mm, IPC High Density)
footprint M08A_M (SOIC, 8-Leads, Body 4.9x3.9mm, Pitch 1.27mm, IPC Low Density)
pins: 1 VDD (power), 2 HI (in), 3 LI (in), 4 VSS (power), 5 LO (out), 6 HS (in), 7 HO (out), 8 HB (in)

## LM5109BMAX/NOPB
designator U?
High Voltage 1A Peak Half Bridge Gate Driver, 8-pin Narrow SOIC, Pb-Free; PartNumber: LM5109BMAX/NOPB; Manufacturer: National Semiconductor; PackageTopMarking: NSZXTT*L5109*BMA; PowerWise: N; CompType: MiscPower; High-Reliability: Y; DatasheetVersion: Feb-2007; PackageVersion: revM, May-2009; PackageReference: M08A; PackageDescription: SOIC Narrow, 4.9 x 3.9 x 1.45mm, 8 Lead, 1.27mm Pitch; RoHS: Y; PinCount: 8; Code_JEDEC: MS-012-AA; Code_IPC: SOIC127P600-8; ComponentLink1Description: Manufacturer URL; ComponentLink1URL: http://www.national.com/; ComponentLink2Description: LM5109B Datasheet; ComponentLink2URL: http://www.national.com/ds/LM/LM5109B.pdf; ComponentLink3Description: LM5109B Web Page; ComponentLink3URL: http://www.national.com/pf/LM/LM5109B.html; ComponentLink4Description: M08A Package Page; ComponentLink4URL: http://www.national.com/packaging/folders/m08a.html
footprint M08A_N (SOIC, 8-Leads, Body 4.9x3.9mm, Pitch 1.27mm, IPC Medium Density)
footprint M08A_L (SOIC, 8-Leads, Body 4.9x3.9mm, Pitch 1.27mm, IPC High Density)
footprint M08A_M (SOIC, 8-Leads, Body 4.9x3.9mm, Pitch 1.27mm, IPC Low Density)
pins: 1 VDD (power), 2 HI (in), 3 LI (in), 4 VSS (power), 5 LO (out), 6 HS (in), 7 HO (out), 8 HB (in)

## LM5109BSD
designator U?
High Voltage 1A Peak Half Bridge Gate Driver, 8-pin LLP; PartNumber: LM5109BSD; Manufacturer: National Semiconductor; PackageTopMarking: NS*UZXYTT*5109BSD; PowerWise: N; CompType: MiscPower; High-Reliability: Y; DatasheetVersion: Feb-2007; PackageVersion: revA, Jun-2003; PackageReference: SDC08A; PackageDescription: LLP, Plastic, Dual, 4 x 4 x 0.8mm Body, 8 Lead, 0.8mm Pitch, No Pullback; RoHS: Y; PinCount: 8; ComponentLink1Description: Manufacturer URL; ComponentLink1URL: http://www.national.com/; ComponentLink2Description: LM5109B Datasheet; ComponentLink2URL: http://www.national.com/ds/LM/LM5109B.pdf; ComponentLink3Description: LM5109B Web Page; ComponentLink3URL: http://www.national.com/pf/LM/LM5109B.html; ComponentLink4Description: SDC08A Package Page; ComponentLink4URL: http://www.national.com/packaging/folders/sdc08a.html
footprint SDC08A (SON, 8-Leads, Body 4x4mm, Pitch 0.8mm, NSC Recommended)
pins: 1 VDD (power), 2 HI (in), 3 LI (in), 4 VSS (power), 5 LO (out), 6 HS (in), 7 HO (out), 8 HB (in), 9 EP (power)

## LM5109BSD/NOPB
designator U?
High Voltage 1A Peak Half-Bridge Gate Driver, 8-pin LLP, Pb-Free; PartNumber: LM5109BSD/NOPB; Manufacturer: National Semiconductor; PackageTopMarking: NS*UZXYTT*5109BSD; PowerWise: N; CompType: MiscPower; High-Reliability: Y; DatasheetVersion: Feb-2007; PackageVersion: revA, Jun-2003; PackageReference: SDC08A; PackageDescription: LLP, Plastic, Dual, 4 x 4 x 0.8mm Body, 8 Lead, 0.8mm Pitch, No Pullback; RoHS: Y; PinCount: 8; ComponentLink1Description: Manufacturer URL; ComponentLink1URL: http://www.national.com/; ComponentLink2Description: LM5109B Datasheet; ComponentLink2URL: http://www.national.com/ds/LM/LM5109B.pdf; ComponentLink3Description: LM5109B Web Page; ComponentLink3URL: http://www.national.com/pf/LM/LM5109B.html; ComponentLink4Description: SDC08A Package Page; ComponentLink4URL: http://www.national.com/packaging/folders/sdc08a.html
footprint SDC08A (SON, 8-Leads, Body 4x4mm, Pitch 0.8mm, NSC Recommended)
pins: 1 VDD (power), 2 HI (in), 3 LI (in), 4 VSS (power), 5 LO (out), 6 HS (in), 7 HO (out), 8 HB (in), 9 EP (power)

## LM5109BSDX/NOPB
designator U?
High Voltage 1A Peak Half Bridge Gate Driver, 8-pin LLP, Pb-Free; PartNumber: LM5109BSDX/NOPB; Manufacturer: National Semiconductor; PackageTopMarking: NS*UZXYTT*5109BSD; PowerWise: N; CompType: MiscPower; High-Reliability: Y; DatasheetVersion: Feb-2007; PackageVersion: revA, Jun-2003; PackageReference: SDC08A; PackageDescription: LLP, Plastic, Dual, 4 x 4 x 0.8mm Body, 8 Lead, 0.8mm Pitch, No Pullback; RoHS: Y; PinCount: 8; ComponentLink1Description: Manufacturer URL; ComponentLink1URL: http://www.national.com/; ComponentLink2Description: LM5109B Datasheet; ComponentLink2URL: http://www.national.com/ds/LM/LM5109B.pdf; ComponentLink3Description: LM5109B Web Page; ComponentLink3URL: http://www.national.com/pf/LM/LM5109B.html; ComponentLink4Description: SDC08A Package Page; ComponentLink4URL: http://www.national.com/packaging/folders/sdc08a.html
footprint SDC08A (SON, 8-Leads, Body 4x4mm, Pitch 0.8mm, NSC Recommended)
pins: 1 VDD (power), 2 HI (in), 3 LI (in), 4 VSS (power), 5 LO (out), 6 HS (in), 7 HO (out), 8 HB (in), 9 EP (power)

## LM8322JGR8
designator U?
Mobile I/O Companion Supporting Key-Scan, I/O Expansion, PWM, and ACCESS.bus Host Interface, 36-pin Micro-Array; PartNumber: LM8322JGR8; Manufacturer: National Semiconductor; PackageTopMarking: NS*UZXYTT*LM8322; PowerWise: N; CompType: MiscPower; High-Reliability: Y; DatasheetVersion: May-2007; PackageVersion: revA, Mar-2004; PackageReference: GRA36A; PackageDescription: Micro-Array, 3.5 x 3.5 x 1mm, 36 Ball, 0.5mm Pitch; RoHS: Y; PinCount: 36; ComponentLink1Description: Manufacturer URL; ComponentLink1URL: http://www.national.com/; ComponentLink2Description: LM8322 Datasheet; ComponentLink2URL: http://www.national.com/ds/LM/LM8322.pdf; ComponentLink3Description: LM8322 Web Page; ComponentLink3URL: http://www.national.com/pf/LM/LM8322.html; ComponentLink4Description: GRA36A Package Page; ComponentLink4URL: http://www.national.com/packaging/folders/gra36a.html
footprint GRA36A (BGA, 36-Leads, Body 3.5x3.5mm, Pitch 0.5mm, NSC Recommended)
pins: A1 KP-Y5/GPIO_06 (io) "Keyboard scanning output 5, General-purpose I/O port 6", A2 KP-X4/GPIO_12 (io) "Wake-up input/Keyboard scanning input 4, General-purpose I/O port 12", A3 KP-X6/GPIO_10 (io) "Wake-up input/Keyboard scanning input 6, General-purpose I/O port 10", A4 VCC (power), A5 KP-X1 (in) "Wake-up input/Keyboard scanning input 1", A6 KP-X0 (in) "Wake-up input/Keyboard scanning input 0", B1 KP-Y6/GPIO_05 (io) "Keyboard scanning output 6, General-purpose I/O port 5", B2 KP-Y4/GPIO_07 (io) "Keyboard scanning output 4, General-purpose I/O port 7", B3 KP-X5/GPIO_11 (io) "Wake-up input/Keyboard scanning input 5, General-purpose I/O port 11", B4 KP-X7/GPIO_09 (io) "Wake-up input/Keyboard scanning input 7, General-purpose I/O port 9", B5 KP-Y3/GPIO_08 (io) "Keyboard scanning output 3, General-purpose I/O port 8", B6 KP-Y2 (out) "Keyboard scanning output 2", C1 ~{RESET} (in) "Reset Input", C2 KP-Y7/GPIO_04 (io) "Keyboard scanning output 7, General-purpose I/O port 4", C3 GND (power) "Ground", C4 GND (power) "Ground", C5 KP-Y1 (out) "Keyboard scanning output 1", C6 KP_Y0 (out) "Keyboard scanning output 0", D1 XTAL_OUT (in) "32.768 kHz crystal output", D2 SLOWCLK/XTAL_IN (in) "32.768 kHz clock, 32.768 kHz crystal input", D3 GND (power) "Ground", D4 GND (power) "Ground", D5 KP-Y9/MUX2_IN1/GPIO_02 (io) "Keyboard scanning output 9, Multiplexer 2 input 1, General-purpose I/O port 2", D6 CONFIG_1/GPIO_14 (io) "Slave address select input 1, General-purpose I/O port 14", E1 ACB_SCL (io) "ACCESS.bus clock signal", E2 ACB_SDA (io) "ACCESS.bus data signal", E3 KP-Y8/SLOWCLKOUT/GPIO_03 (io) "Keyboard scanning output 8, 32.768 kHz clock output, General-purpose I/O port 3", E4 PWM_0/MUX_IN1 (io) "Pulse-width modulated output 0, Multiplexer 1 input 1", E5 PWM_2/MUX1_OUT/CONFIG_2/GPIO_15 (io) "Pulse-width modulated output 2, Multiplexer 1 output, Slave address select input 2, General-purpose I/O port 15", E6 KP-Y10/MUX2_IN2/GPIO_01 (io) "Keyboard scanning output 10, Multiplexer 2 input 2, General-purpose I/O port 1", F1 KP-X2 (in) "Wake-up input/Keyboard scanning input 2", F2 KP-X3/GPIO_13 (io) "Wake-up input/Keyboard scanning input 3, General-purpose I/O port 13", F3 ~{IRQ} (out) "Interrupt request output", F4 VCC (power), F5 PWM_1/MUX_IN2 (io) "Pulse-width modulated output 1, Multiplexer 1 input 2", F6 KP-Y11/MUX2_OUT/GPIO_00 (io) "Keyboard scanning output 11, Multiplexer 2 output, General-purpose I/O port 0"

## LM8322JGR8/NOPB
designator U?
Mobile I/O Companion Supporting Key-Scan, I/O Expansion, PWM, and ACCESS.bus Host Interface, 36-pin Micro-Array, Pb-Free; PartNumber: LM8322JGR8/NOPB; Manufacturer: National Semiconductor; PackageTopMarking: NS*UZXYTT*LM8322; PowerWise: N; CompType: MiscPower; High-Reliability: Y; DatasheetVersion: May-2007; PackageVersion: revA, Mar-2004; PackageReference: GRA36A; PackageDescription: Micro-Array, 3.5 x 3.5 x 1mm, 36 Ball, 0.5mm Pitch; RoHS: Y; PinCount: 36; ComponentLink1Description: Manufacturer URL; ComponentLink1URL: http://www.national.com/; ComponentLink2Description: LM8322 Datasheet; ComponentLink2URL: http://www.national.com/ds/LM/LM8322.pdf; ComponentLink3Description: LM8322 Web Page; ComponentLink3URL: http://www.national.com/pf/LM/LM8322.html; ComponentLink4Description: GRA36A Package Page; ComponentLink4URL: http://www.national.com/packaging/folders/gra36a.html
footprint GRA36A (BGA, 36-Leads, Body 3.5x3.5mm, Pitch 0.5mm, NSC Recommended)
pins: A1 KP-Y5/GPIO_06 (io) "Keyboard scanning output 5, General-purpose I/O port 6", A2 KP-X4/GPIO_12 (io) "Wake-up input/Keyboard scanning input 4, General-purpose I/O port 12", A3 KP-X6/GPIO_10 (io) "Wake-up input/Keyboard scanning input 6, General-purpose I/O port 10", A4 VCC (power), A5 KP-X1 (in) "Wake-up input/Keyboard scanning input 1", A6 KP-X0 (in) "Wake-up input/Keyboard scanning input 0", B1 KP-Y6/GPIO_05 (io) "Keyboard scanning output 6, General-purpose I/O port 5", B2 KP-Y4/GPIO_07 (io) "Keyboard scanning output 4, General-purpose I/O port 7", B3 KP-X5/GPIO_11 (io) "Wake-up input/Keyboard scanning input 5, General-purpose I/O port 11", B4 KP-X7/GPIO_09 (io) "Wake-up input/Keyboard scanning input 7, General-purpose I/O port 9", B5 KP-Y3/GPIO_08 (io) "Keyboard scanning output 3, General-purpose I/O port 8", B6 KP-Y2 (out) "Keyboard scanning output 2", C1 ~{RESET} (in) "Reset Input", C2 KP-Y7/GPIO_04 (io) "Keyboard scanning output 7, General-purpose I/O port 4", C3 GND (power) "Ground", C4 GND (power) "Ground", C5 KP-Y1 (out) "Keyboard scanning output 1", C6 KP_Y0 (out) "Keyboard scanning output 0", D1 XTAL_OUT (in) "32.768 kHz crystal output", D2 SLOWCLK/XTAL_IN (in) "32.768 kHz clock, 32.768 kHz crystal input", D3 GND (power) "Ground", D4 GND (power) "Ground", D5 KP-Y9/MUX2_IN1/GPIO_02 (io) "Keyboard scanning output 9, Multiplexer 2 input 1, General-purpose I/O port 2", D6 CONFIG_1/GPIO_14 (io) "Slave address select input 1, General-purpose I/O port 14", E1 ACB_SCL (io) "ACCESS.bus clock signal", E2 ACB_SDA (io) "ACCESS.bus data signal", E3 KP-Y8/SLOWCLKOUT/GPIO_03 (io) "Keyboard scanning output 8, 32.768 kHz clock output, General-purpose I/O port 3", E4 PWM_0/MUX_IN1 (io) "Pulse-width modulated output 0, Multiplexer 1 input 1", E5 PWM_2/MUX1_OUT/CONFIG_2/GPIO_15 (io) "Pulse-width modulated output 2, Multiplexer 1 output, Slave address select input 2, General-purpose I/O port 15", E6 KP-Y10/MUX2_IN2/GPIO_01 (io) "Keyboard scanning output 10, Multiplexer 2 input 2, General-purpose I/O port 1", F1 KP-X2 (in) "Wake-up input/Keyboard scanning input 2", F2 KP-X3/GPIO_13 (io) "Wake-up input/Keyboard scanning input 3, General-purpose I/O port 13", F3 ~{IRQ} (out) "Interrupt request output", F4 VCC (power), F5 PWM_1/MUX_IN2 (io) "Pulse-width modulated output 1, Multiplexer 1 input 2", F6 KP-Y11/MUX2_OUT/GPIO_00 (io) "Keyboard scanning output 11, Multiplexer 2 output, General-purpose I/O port 0"

## LM8323JGR8AXM/NOPB
designator U?
Mobile I/O Companion Supporting Keyscan, I/O Expansion, PWM, and ACCESS.bus Host Interface, 36 pin MICRO-ARRAY; PartNumber: LM8323JGR8AXM/NOPB; Manufacturer: National Semiconductor; PackageTopMarking: NS*UZXYTT*LM8323; PowerWise: N; CompType: MiscPower; High-Reliability: Y; DatasheetVersion: Jul-2010; PackageVersion: revA, Mar-2004; PackageReference: GRA36A; PackageDescription: Micro-Array, 3.5 x 3.5 x 1mm, 36 Ball, 0.5mm Pitch; RoHS: Y; PinCount: 36; ComponentLink1Description: Manufacturer URL; ComponentLink1URL: http://www.national.com/; ComponentLink2Description: LM8323 Datasheet; ComponentLink2URL: http://www.national.com/ds/LM/LM8323.pdf; ComponentLink3Description: LM8323 Web Page; ComponentLink3URL: http://www.national.com/pf/LM/LM8323.html; ComponentLink4Description: GRA36A Package Page; ComponentLink4URL: http://www.national.com/packaging/folders/gra36a.html
footprint GRA36A (BGA, 36-Leads, Body 3.5x3.5mm, Pitch 0.5mm, NSC Recommended)
pins: A1 KP-Y5/GPIO_06 (io) "Keyboard scanning output 5, General-purpose I/O port 6", A2 KP-X4/GPIO_12 (io) "Wake-up input/Keyboard scanning input 4, General-purpose I/O port 12", A3 KP-X6/GPIO_10 (io) "Wake-up input/Keyboard scanning input 6, General-purpose I/O port 10", A4 VCC (power), A5 KP-X1 (in) "Wake-up input/Keyboard scanning input 1", A6 KP-X0 (in) "Wake-up input/Keyboard scanning input 0", B1 KP-Y6/GPIO_05 (io) "Keyboard scanning output 6, General-purpose I/O port 5", B2 KP-Y4/GPIO_07 (io) "Keyboard scanning output 4, General-purpose I/O port 7", B3 KP-X5/GPIO_11 (io) "Wake-up input/Keyboard scanning input 5, General-purpose I/O port 11", B4 KP-X7/GPIO_09 (io) "Wake-up input/Keyboard scanning input 7, General-purpose I/O port 9", B5 KP-Y3/GPIO_08 (io) "Keyboard scanning output 3, General-purpose I/O port 8", B6 KP-Y2 (out) "Keyboard scanning output 2", C1 ~{RESET} (in) "Reset Input", C2 KP-Y7/GPIO_04 (io) "Keyboard scanning output 7, General-purpose I/O port 4", C3 GND (power) "Ground", C4 GND (power) "Ground", C5 KP-Y1 (out) "Keyboard scanning output 1", C6 KP_Y0 (out) "Keyboard scanning output 0", D1 XTAL_OUT (in) "32.768 kHz crystal output", D2 SLOWCLK/XTAL_IN (in) "32.768 kHz clock, 32.768 kHz crystal input", D3 GND (power) "Ground", D4 GND (power) "Ground", D5 KP-Y9/MUX2_IN1/GPIO_02 (io) "Keyboard scanning output 9, Multiplexer 2 input 1, General-purpose I/O port 2", D6 CONFIG_1/GPIO_14 (io) "Slave address select input 1, General-purpose I/O port 14", E1 ACB_SCL (io) "ACCESS.bus clock signal", E2 ACB_SDA (io) "ACCESS.bus data signal", E3 KP-Y8/SLOWCLKOUT/GPIO_03 (io) "Keyboard scanning output 8, 32.768 kHz clock output, General-purpose I/O port 3", E4 PWM_0/MUX_IN1 (io) "Pulse-width modulated output 0, Multiplexer 1 input 1", E5 PWM_2/MUX1_OUT/CONFIG_2/GPIO_15 (io) "Pulse-width modulated output 2, Multiplexer 1 output, Slave address select input 2, General-purpose I/O port 15", E6 KP-Y10/MUX2_IN2/GPIO_01 (io) "Keyboard scanning output 10, Multiplexer 2 input 2, General-purpose I/O port 1", F1 KP-X2 (in) "Wake-up input/Keyboard scanning input 2", F2 KP-X3/GPIO_13 (io) "Wake-up input/Keyboard scanning input 3, General-purpose I/O port 13", F3 ~{IRQ} (out) "Interrupt request output", F4 VCC (power), F5 PWM_1/MUX_IN2 (io) "Pulse-width modulated output 1, Multiplexer 1 input 2", F6 KP-Y11/MUX2_OUT/GPIO_00 (io) "Keyboard scanning output 11, Multiplexer 2 output, General-purpose I/O port 0"